# EAGLE library part STM32F103C8T6-GENERIC-MCU (library vinoth-autodeskEagle)
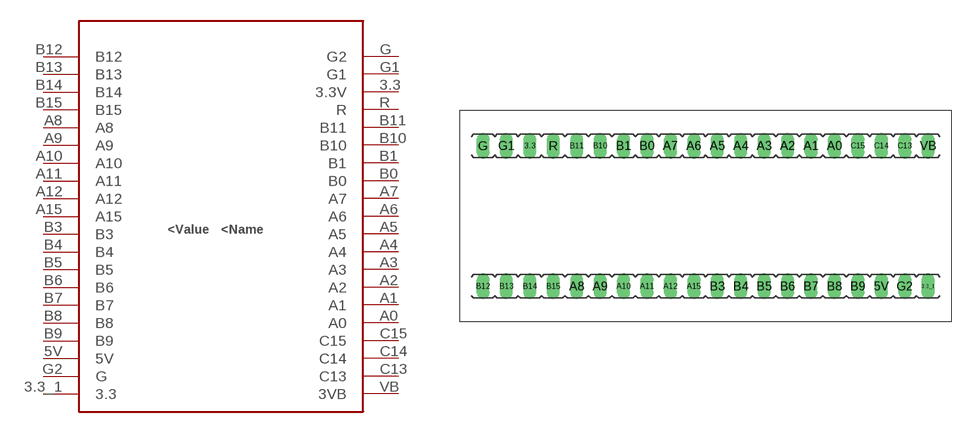
[diagram p2: symbol with the pads of STM32F103C8T6-GENERIC-MCU; footprint STM32F103C8T6-GENERIC-MCU]

Designator prefix -

## STM32F103C8T6-GENERIC-MCU  [STM32F103C8T6-GENERIC-MCU]
3.3  3.3V
3.3_1  3.3
5V  5V
A0  A0
A1  A1
A2  A2
A3  A3
A4  A4
A5  A5
A6  A6
A7  A7
A8  A8
A9  A9
A10  A10
A11  A11
A12  A12
A15  A15
B0  B0
B1  B1
B3  B3
B4  B4
B5  B5
B6  B6
B7  B7
B8  B8
B9  B9
B10  B10
B11  B11
B12  B12
B13  B13
B14  B14
B15  B15
C13  C13
C14  C14
C15  C15
G  G2
G1  G1
G2  G
R  R
VB  3VB

## Footprint STM32F103C8T6-GENERIC-MCU (pad centres in mm)
drill 0.914 long: 3.3 -15.24,7.62; 3.3_1 27.94,-7.62; 5V 22.86,-7.62; A0 17.78,7.62; A1 15.24,7.62; A2 12.7,7.62; A3 10.16,7.62; A4 7.62,7.62; A5 5.08,7.62; A6 2.54,7.62; A7 0,7.62; A8 -10.16,-7.62; A9 -7.62,-7.62; A10 -5.08,-7.62; A11 -2.54,-7.62; A12 0,-7.62; A15 2.54,-7.62; B0 -2.54,7.62; B1 -5.08,7.62; B3 5.08,-7.62; B4 7.62,-7.62; B5 10.16,-7.62; B6 12.7,-7.62; B7 15.24,-7.62; B8 17.78,-7.62; B9 20.32,-7.62; B10 -7.62,7.62; B11 -10.16,7.62; B12 -20.32,-7.62; B13 -17.78,-7.62; B14 -15.24,-7.62; B15 -12.7,-7.62; C13 25.4,7.62; C14 22.86,7.62; C15 20.32,7.62; G -20.32,7.62; G1 -17.78,7.62; G2 25.4,-7.62; R -12.7,7.62; VB 27.94,7.62